# Altium schematic symbol library Schlib_OtherConnectors.SchLib: 3 symbols
Pins are listed as number, name and electrical type; pins without a type are passive.

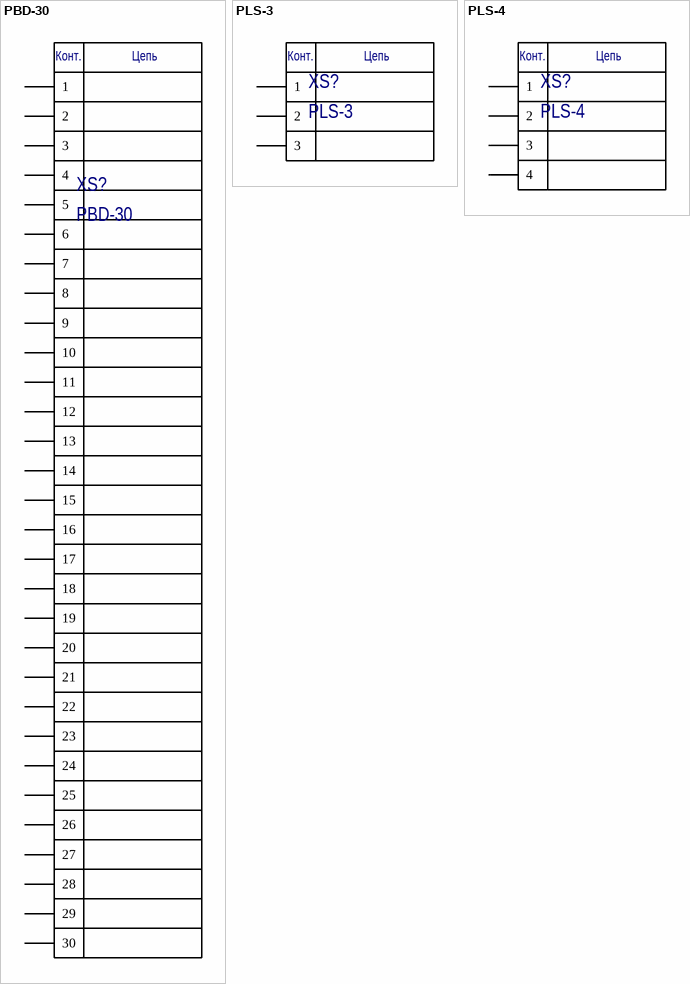
[diagram p0: symbols PBD-30 to PLS-4]

## PBD-30
designator XS?
Female straight connector pitch 2.54 mm; Manufacturer: *; Part Number: PBD-30
footprint PBD-30
pins: 1, 2, 3, 4, 5, 6, 7, 8, 9, 10, 11, 12, 13, 14, 15, 16, 17, 18, 19, 20, 21, 22, 23, 24, 25, 26, 27, 28, 29, 30
text: Конт.; Цепь

## PLS-3
designator XS?
Male straight connector pitch 2.54 mm; Manufacturer: *; Part Number: PLS-3
footprint PLS-3
pins: 1, 2, 3
text: Конт.; Цепь

## PLS-4
designator XS?
Male straight connector pitch 2.54 mm; Manufacturer: *; Part Number: PLS-4
footprint PLS-4
pins: 1, 2, 3, 4
text: Конт.; Цепь